# EAGLE library part TPS61085DGKT (library SchlegelAr_Master)
TPS61085DGKT - Spannungsregulatoren - Schaltregler 650kHz 1.2MHz Step- Up DC-DC Converter last modified: Armin Schlegel, 28.04.2014 http://de.mouser.com/ProductDetail/Texas-Instruments/TPS61085DGKT/?qs=sGAEpiMZZMt7FrWooXVB197HvHL%252bksz9 http://www.mouser.com/ds/2/405/slvs859a-120846.pdf
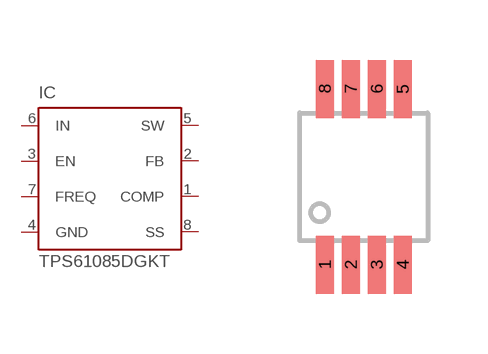
[diagram p11: symbol with the pads of VSSOP8; footprint VSSOP8]

Designator prefix IC

## TPS61085DGKT  [VSSOP8]
1  COMP
2  FB  in
3  EN  in
4  GND  pwr
5  SW  pas
6  IN  in
7  FREQ  in
8  SS  in

## Footprint VSSOP8 (pad centres in mm)
smd 0.45 x 1.45: 1 -0.975,-2.2; 2 -0.325,-2.2; 3 0.325,-2.2; 4 0.975,-2.2; 5 0.975,2.2; 6 0.325,2.2; 7 -0.325,2.2; 8 -0.975,2.2